# Altium schematic symbol library WCAP-AT1H.SchLib: 95 symbols (part 1 of 2)
Pins are listed as number, name and electrical type; pins without a type are passive.

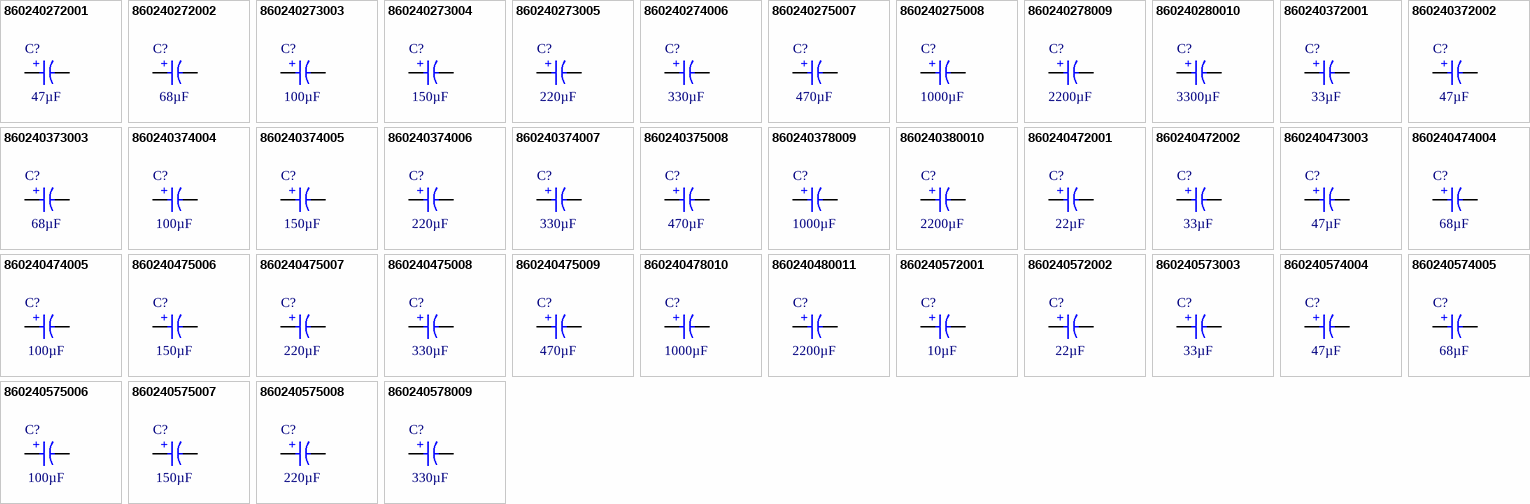
[diagram p0: symbols 860240272001 to 860240578009]

## 860240272001
designator C?, comment 47µF
WCAP-AT1H Aluminum Electrolytic Capacitor, Radial, D5 x H11mm, 47µF, 10V; Manufacturer Part Number: 860240272001; Manufacturer: Wurth Elektronik; Capacitance Tolerance: +/-20%; Dissipation Factor: 19%; Endurance: 5000h; Leakage Current: 4.7µA; Ripple Current: 100mA; Technical Reference: ATDC110470M010DSPA3E000; Category: Aluminum Electrolytic Capacitors; Match Code: WCAP-AT1H; ComponentLink1Description: Website Link; ComponentLink1URL: https://www.we-online.com/redexpert/article/860240272001?ad; ComponentLink2Description: Datasheet Link; ComponentLink2URL: https://www.we-online.com/redexpert/spec/860240272001?ad; Mount: Through Hole; Min Operating Temperature: -40°C; Max Operating Temperature: 105°C; Packaging: Ammo Pack; Case/Size Code: D5 x H11mm; Height: 11mm; Diameter: 5mm; Capacitance: 47µF; Rated Voltage (DC): 10V
footprint WCAP-AT1H_D5H11
simulation model 860240272001_47uF
pins: 1 P, 2 N
text: +

## 860240272002
designator C?, comment 68µF
WCAP-AT1H Aluminum Electrolytic Capacitor, Radial, D5 x H11mm, 68µF, 10V; Manufacturer Part Number: 860240272002; Manufacturer: Wurth Elektronik; Capacitance Tolerance: +/-20%; Dissipation Factor: 19%; Endurance: 5000h; Leakage Current: 6.8µA; Ripple Current: 130mA; Technical Reference: ATDC110680M010DSPA3E000; Category: Aluminum Electrolytic Capacitors; Match Code: WCAP-AT1H; ComponentLink1Description: Website Link; ComponentLink1URL: https://www.we-online.com/redexpert/article/860240272002?ad; ComponentLink2Description: Datasheet Link; ComponentLink2URL: https://www.we-online.com/redexpert/spec/860240272002?ad; Mount: Through Hole; Min Operating Temperature: -40°C; Max Operating Temperature: 105°C; Packaging: Ammo Pack; Case/Size Code: D5 x H11mm; Height: 11mm; Diameter: 5mm; Capacitance: 68µF; Rated Voltage (DC): 10V
footprint WCAP-AT1H_D5H11
simulation model 860240272002_68uF
pins: 1 P, 2 N
text: +

## 860240273003
designator C?, comment 100µF
WCAP-AT1H Aluminum Electrolytic Capacitor, Radial, D6.3 x H11mm, 100µF, 10V; Manufacturer Part Number: 860240273003; Manufacturer: Wurth Elektronik; Capacitance Tolerance: +/-20%; Dissipation Factor: 19%; Endurance: 5000h; Leakage Current: 10µA; Ripple Current: 190mA; Technical Reference: ATDD110101M010DSPA4E000; Category: Aluminum Electrolytic Capacitors; Match Code: WCAP-AT1H; ComponentLink1Description: Website Link; ComponentLink1URL: https://www.we-online.com/redexpert/article/860240273003?ad; ComponentLink2Description: Datasheet Link; ComponentLink2URL: https://www.we-online.com/redexpert/spec/860240273003?ad; Mount: Through Hole; Min Operating Temperature: -40°C; Max Operating Temperature: 105°C; Packaging: Ammo Pack; Case/Size Code: D6.3 x H11mm; Height: 11mm; Diameter: 6.3mm; Capacitance: 100µF; Rated Voltage (DC): 10V
footprint WCAP-AT1H_D6.3H11
simulation model 860240273003_100uF
pins: 1 P, 2 N
text: +

## 860240273004
designator C?, comment 150µF
WCAP-AT1H Aluminum Electrolytic Capacitor, Radial, D6.3 x H11mm, 150µF, 10V; Manufacturer Part Number: 860240273004; Manufacturer: Wurth Elektronik; Capacitance Tolerance: +/-20%; Dissipation Factor: 19%; Endurance: 5000h; Leakage Current: 15µA; Ripple Current: 220mA; Technical Reference: ATDD110151M010DSPA4E000; Category: Aluminum Electrolytic Capacitors; Match Code: WCAP-AT1H; ComponentLink1Description: Website Link; ComponentLink1URL: https://www.we-online.com/redexpert/article/860240273004?ad; ComponentLink2Description: Datasheet Link; ComponentLink2URL: https://www.we-online.com/redexpert/spec/860240273004?ad; Mount: Through Hole; Min Operating Temperature: -40°C; Max Operating Temperature: 105°C; Packaging: Ammo Pack; Case/Size Code: D6.3 x H11mm; Height: 11mm; Diameter: 6.3mm; Capacitance: 150µF; Rated Voltage (DC): 10V
footprint WCAP-AT1H_D6.3H11
simulation model 860240273004_150uF
pins: 1 P, 2 N
text: +

## 860240273005
designator C?, comment 220µF
WCAP-AT1H Aluminum Electrolytic Capacitor, Radial, D6.3 x H11mm, 220µF, 10V; Manufacturer Part Number: 860240273005; Manufacturer: Wurth Elektronik; Capacitance Tolerance: +/-20%; Dissipation Factor: 19%; Endurance: 5000h; Leakage Current: 22µA; Ripple Current: 270mA; Technical Reference: ATDD110221M010DSPA4E000; Category: Aluminum Electrolytic Capacitors; Match Code: WCAP-AT1H; ComponentLink1Description: Website Link; ComponentLink1URL: https://www.we-online.com/redexpert/article/860240273005?ad; ComponentLink2Description: Datasheet Link; ComponentLink2URL: https://www.we-online.com/redexpert/spec/860240273005?ad; Mount: Through Hole; Min Operating Temperature: -40°C; Max Operating Temperature: 105°C; Packaging: Ammo Pack; Case/Size Code: D6.3 x H11mm; Height: 11mm; Diameter: 6.3mm; Capacitance: 220µF; Rated Voltage (DC): 10V
footprint WCAP-AT1H_D6.3H11
simulation model 860240273005_220uF
pins: 1 P, 2 N
text: +

## 860240274006
designator C?, comment 330µF
WCAP-AT1H Aluminum Electrolytic Capacitor, Radial, D8 x H11.5mm, 330µF, 10V; Manufacturer Part Number: 860240274006; Manufacturer: Wurth Elektronik; Capacitance Tolerance: +/-20%; Dissipation Factor: 19%; Endurance: 8000h; Leakage Current: 33µA; Ripple Current: 390mA; Technical Reference: ATDE115331M010DSPA7H000; Category: Aluminum Electrolytic Capacitors; Match Code: WCAP-AT1H; ComponentLink1Description: Website Link; ComponentLink1URL: https://www.we-online.com/redexpert/article/860240274006?ad; ComponentLink2Description: Datasheet Link; ComponentLink2URL: https://www.we-online.com/redexpert/spec/860240274006?ad; Mount: Through Hole; Min Operating Temperature: -40°C; Max Operating Temperature: 105°C; Packaging: Ammo Pack; Case/Size Code: D8 x H11.5mm; Height: 11.5mm; Diameter: 8mm; Capacitance: 330µF; Rated Voltage (DC): 10V
footprint WCAP-AT1H_D8H11.5
simulation model 860240274006_330uF
pins: 1 P, 2 N
text: +

## 860240275007
designator C?, comment 470µF
WCAP-AT1H Aluminum Electrolytic Capacitor, Radial, D10 x H12.5mm, 470µF, 10V; Manufacturer Part Number: 860240275007; Manufacturer: Wurth Elektronik; Capacitance Tolerance: +/-20%; Dissipation Factor: 19%; Endurance: 10000h; Leakage Current: 47µA; Ripple Current: 540mA; Technical Reference: ATDF125471M010DSPA9K000; Category: Aluminum Electrolytic Capacitors; Match Code: WCAP-AT1H; ComponentLink1Description: Website Link; ComponentLink1URL: https://www.we-online.com/redexpert/article/860240275007?ad; ComponentLink2Description: Datasheet Link; ComponentLink2URL: https://www.we-online.com/redexpert/spec/860240275007?ad; Mount: Through Hole; Min Operating Temperature: -40°C; Max Operating Temperature: 105°C; Packaging: Ammo Pack; Case/Size Code: D10 x H12.5mm; Height: 12.5mm; Diameter: 10mm; Capacitance: 470µF; Rated Voltage (DC): 10V
footprint WCAP-AT1H_D10H12.5
simulation model 860240275007_470uF
pins: 1 P, 2 N
text: +

## 860240275008
designator C?, comment 1000µF
WCAP-AT1H Aluminum Electrolytic Capacitor, Radial, D10 x H16mm, 1000µF, 10V; Manufacturer Part Number: 860240275008; Manufacturer: Wurth Elektronik; Capacitance Tolerance: +/-20%; Dissipation Factor: 19%; Endurance: 10000h; Leakage Current: 100µA; Ripple Current: 900mA; Technical Reference: ATDF160102M010DSPAAK000; Category: Aluminum Electrolytic Capacitors; Match Code: WCAP-AT1H; ComponentLink1Description: Website Link; ComponentLink1URL: https://www.we-online.com/redexpert/article/860240275008?ad; ComponentLink2Description: Datasheet Link; ComponentLink2URL: https://www.we-online.com/redexpert/spec/860240275008?ad; Mount: Through Hole; Min Operating Temperature: -40°C; Max Operating Temperature: 105°C; Packaging: Ammo Pack; Case/Size Code: D10 x H16mm; Height: 16mm; Diameter: 10mm; Capacitance: 1000µF; Rated Voltage (DC): 10V
footprint WCAP-AT1H_D10H16
simulation model 860240275008_1mF
pins: 1 P, 2 N
text: +

## 860240278009
designator C?, comment 2200µF
WCAP-AT1H Aluminum Electrolytic Capacitor, Radial, D13 x H20mm, 2200µF, 10V; Manufacturer Part Number: 860240278009; Manufacturer: Wurth Elektronik; Capacitance Tolerance: +/-20%; Dissipation Factor: 19%; Endurance: 10000h; Leakage Current: 220µA; Ripple Current: 1540mA; Technical Reference: ATDI200222M010DSPACK000; Category: Aluminum Electrolytic Capacitors; Match Code: WCAP-AT1H; ComponentLink1Description: Website Link; ComponentLink1URL: https://www.we-online.com/redexpert/article/860240278009?ad; ComponentLink2Description: Datasheet Link; ComponentLink2URL: https://www.we-online.com/redexpert/spec/860240278009?ad; Mount: Through Hole; Min Operating Temperature: -40°C; Max Operating Temperature: 105°C; Packaging: Ammo Pack; Case/Size Code: D13 x H20mm; Height: 20mm; Diameter: 13mm; Capacitance: 2200µF; Rated Voltage (DC): 10V
footprint WCAP-AT1H_D13H20
simulation model 860240278009_2.2mF
pins: 1 P, 2 N
text: +

## 860240280010
designator C?, comment 3300µF
WCAP-AT1H Aluminum Electrolytic Capacitor, Radial, D16 x H25mm, 3300µF, 10V; Manufacturer Part Number: 860240280010; Manufacturer: Wurth Elektronik; Capacitance Tolerance: +/-20%; Dissipation Factor: 19%; Endurance: 10000h; Leakage Current: 330µA; Ripple Current: 1900mA; Technical Reference: ATDK250332M010DSPAEK000; Category: Aluminum Electrolytic Capacitors; Match Code: WCAP-AT1H; ComponentLink1Description: Website Link; ComponentLink1URL: https://www.we-online.com/redexpert/article/860240280010?ad; ComponentLink2Description: Datasheet Link; ComponentLink2URL: https://www.we-online.com/redexpert/spec/860240280010?ad; Mount: Through Hole; Min Operating Temperature: -40°C; Max Operating Temperature: 105°C; Packaging: Ammo Pack; Case/Size Code: D16 x H25mm; Height: 25mm; Diameter: 16mm; Capacitance: 3300µF; Rated Voltage (DC): 10V
footprint WCAP-AT1H_D16H25
simulation model 860240280010_3.3mF
pins: 1 P, 2 N
text: +

## 860240372001
designator C?, comment 33µF
WCAP-AT1H Aluminum Electrolytic Capacitor, Radial, D5 x H11mm, 33µF, 16V; Manufacturer Part Number: 860240372001; Manufacturer: Wurth Elektronik; Capacitance Tolerance: +/-20%; Dissipation Factor: 16%; Endurance: 5000h; Leakage Current: 5.28µA; Ripple Current: 115mA; Technical Reference: ATDC110330M016DSPA3E000; Category: Aluminum Electrolytic Capacitors; Match Code: WCAP-AT1H; ComponentLink1Description: Website Link; ComponentLink1URL: https://www.we-online.com/redexpert/article/860240372001?ad; ComponentLink2Description: Datasheet Link; ComponentLink2URL: https://www.we-online.com/redexpert/spec/860240372001?ad; Mount: Through Hole; Min Operating Temperature: -40°C; Max Operating Temperature: 105°C; Packaging: Ammo Pack; Case/Size Code: D5 x H11mm; Height: 11mm; Diameter: 5mm; Capacitance: 33µF; Rated Voltage (DC): 16V
footprint WCAP-AT1H_D5H11
simulation model 860240372001_33uF
pins: 1 P, 2 N
text: +

## 860240372002
designator C?, comment 47µF
WCAP-AT1H Aluminum Electrolytic Capacitor, Radial, D5 x H11mm, 47µF, 16V; Manufacturer Part Number: 860240372002; Manufacturer: Wurth Elektronik; Capacitance Tolerance: +/-20%; Dissipation Factor: 16%; Endurance: 5000h; Leakage Current: 7.52µA; Ripple Current: 145mA; Technical Reference: ATDC110470M016DSPA3E000; Category: Aluminum Electrolytic Capacitors; Match Code: WCAP-AT1H; ComponentLink1Description: Website Link; ComponentLink1URL: https://www.we-online.com/redexpert/article/860240372002?ad; ComponentLink2Description: Datasheet Link; ComponentLink2URL: https://www.we-online.com/redexpert/spec/860240372002?ad; Mount: Through Hole; Min Operating Temperature: -40°C; Max Operating Temperature: 105°C; Packaging: Ammo Pack; Case/Size Code: D5 x H11mm; Height: 11mm; Diameter: 5mm; Capacitance: 47µF; Rated Voltage (DC): 16V
footprint WCAP-AT1H_D5H11
simulation model 860240372002_47uF
pins: 1 P, 2 N
text: +

## 860240373003
designator C?, comment 68µF
WCAP-AT1H Aluminum Electrolytic Capacitor, Radial, D6.3 x H11mm, 68µF, 16V; Manufacturer Part Number: 860240373003; Manufacturer: Wurth Elektronik; Capacitance Tolerance: +/-20%; Dissipation Factor: 16%; Endurance: 5000h; Leakage Current: 10.88µA; Ripple Current: 200mA; Technical Reference: ATDD110680M016DSPA4E000; Category: Aluminum Electrolytic Capacitors; Match Code: WCAP-AT1H; ComponentLink1Description: Website Link; ComponentLink1URL: https://www.we-online.com/redexpert/article/860240373003?ad; ComponentLink2Description: Datasheet Link; ComponentLink2URL: https://www.we-online.com/redexpert/spec/860240373003?ad; Mount: Through Hole; Min Operating Temperature: -40°C; Max Operating Temperature: 105°C; Packaging: Ammo Pack; Case/Size Code: D6.3 x H11mm; Height: 11mm; Diameter: 6.3mm; Capacitance: 68µF; Rated Voltage (DC): 16V
footprint WCAP-AT1H_D6.3H11
simulation model 860240373003_68uF
pins: 1 P, 2 N
text: +

## 860240374004
designator C?, comment 100µF
WCAP-AT1H Aluminum Electrolytic Capacitor, Radial, D8 x H11.5mm, 100µF, 16V; Manufacturer Part Number: 860240374004; Manufacturer: Wurth Elektronik; Capacitance Tolerance: +/-20%; Dissipation Factor: 16%; Endurance: 8000h; Leakage Current: 16µA; Ripple Current: 245mA; Technical Reference: ATDE115101M016DSPA7H000; Category: Aluminum Electrolytic Capacitors; Match Code: WCAP-AT1H; ComponentLink1Description: Website Link; ComponentLink1URL: https://www.we-online.com/redexpert/article/860240374004?ad; ComponentLink2Description: Datasheet Link; ComponentLink2URL: https://www.we-online.com/redexpert/spec/860240374004?ad; Mount: Through Hole; Min Operating Temperature: -40°C; Max Operating Temperature: 105°C; Packaging: Ammo Pack; Case/Size Code: D8 x H11.5mm; Height: 11.5mm; Diameter: 8mm; Capacitance: 100µF; Rated Voltage (DC): 16V
footprint WCAP-AT1H_D8H11.5
simulation model 860240374004_100uF
pins: 1 P, 2 N
text: +

## 860240374005
designator C?, comment 150µF
WCAP-AT1H Aluminum Electrolytic Capacitor, Radial, D8 x H11.5mm, 150µF, 16V; Manufacturer Part Number: 860240374005; Manufacturer: Wurth Elektronik; Capacitance Tolerance: +/-20%; Dissipation Factor: 16%; Endurance: 8000h; Leakage Current: 24µA; Ripple Current: 300mA; Technical Reference: ATDE115151M016DSPA7H000; Category: Aluminum Electrolytic Capacitors; Match Code: WCAP-AT1H; ComponentLink1Description: Website Link; ComponentLink1URL: https://www.we-online.com/redexpert/article/860240374005?ad; ComponentLink2Description: Datasheet Link; ComponentLink2URL: https://www.we-online.com/redexpert/spec/860240374005?ad; Mount: Through Hole; Min Operating Temperature: -40°C; Max Operating Temperature: 105°C; Packaging: Ammo Pack; Case/Size Code: D8 x H11.5mm; Height: 11.5mm; Diameter: 8mm; Capacitance: 150µF; Rated Voltage (DC): 16V
footprint WCAP-AT1H_D8H11.5
simulation model 860240374005_150uF
pins: 1 P, 2 N
text: +

## 860240374006
designator C?, comment 220µF
WCAP-AT1H Aluminum Electrolytic Capacitor, Radial, D8 x H11.5mm, 220µF, 16V; Manufacturer Part Number: 860240374006; Manufacturer: Wurth Elektronik; Capacitance Tolerance: +/-20%; Dissipation Factor: 16%; Endurance: 8000h; Leakage Current: 35.2µA; Ripple Current: 420mA; Technical Reference: ATDE115221M016DSPA7H000; Category: Aluminum Electrolytic Capacitors; Match Code: WCAP-AT1H; ComponentLink1Description: Website Link; ComponentLink1URL: https://www.we-online.com/redexpert/article/860240374006?ad; ComponentLink2Description: Datasheet Link; ComponentLink2URL: https://www.we-online.com/redexpert/spec/860240374006?ad; Mount: Through Hole; Min Operating Temperature: -40°C; Max Operating Temperature: 105°C; Packaging: Ammo Pack; Case/Size Code: D8 x H11.5mm; Height: 11.5mm; Diameter: 8mm; Capacitance: 220µF; Rated Voltage (DC): 16V
footprint WCAP-AT1H_D8H11.5
simulation model 860240374006_220uF
pins: 1 P, 2 N
text: +

## 860240374007
designator C?, comment 330µF
WCAP-AT1H Aluminum Electrolytic Capacitor, Radial, D8 x H16mm, 330µF, 16V; Manufacturer Part Number: 860240374007; Manufacturer: Wurth Elektronik; Capacitance Tolerance: +/-20%; Dissipation Factor: 16%; Endurance: 8000h; Leakage Current: 52.8µA; Ripple Current: 500mA; Technical Reference: ATDE160331M016DSPA7H000; Category: Aluminum Electrolytic Capacitors; Match Code: WCAP-AT1H; ComponentLink1Description: Website Link; ComponentLink1URL: https://www.we-online.com/redexpert/article/860240374007?ad; ComponentLink2Description: Datasheet Link; ComponentLink2URL: https://www.we-online.com/redexpert/spec/860240374007?ad; Mount: Through Hole; Min Operating Temperature: -40°C; Max Operating Temperature: 105°C; Packaging: Ammo Pack; Case/Size Code: D8 x H16mm; Height: 16mm; Diameter: 8mm; Capacitance: 330µF; Rated Voltage (DC): 16V
footprint WCAP-AT1H_D8H16
simulation model 860240374007_330uF
pins: 1 P, 2 N
text: +

## 860240375008
designator C?, comment 470µF
WCAP-AT1H Aluminum Electrolytic Capacitor, Radial, D10 x H16mm, 470µF, 16V; Manufacturer Part Number: 860240375008; Manufacturer: Wurth Elektronik; Capacitance Tolerance: +/-20%; Dissipation Factor: 16%; Endurance: 10000h; Leakage Current: 75.2µA; Ripple Current: 730mA; Technical Reference: ATDF160471M016DSPAAK000; Category: Aluminum Electrolytic Capacitors; Match Code: WCAP-AT1H; ComponentLink1Description: Website Link; ComponentLink1URL: https://www.we-online.com/redexpert/article/860240375008?ad; ComponentLink2Description: Datasheet Link; ComponentLink2URL: https://www.we-online.com/redexpert/spec/860240375008?ad; Mount: Through Hole; Min Operating Temperature: -40°C; Max Operating Temperature: 105°C; Packaging: Ammo Pack; Case/Size Code: D10 x H16mm; Height: 16mm; Diameter: 10mm; Capacitance: 470µF; Rated Voltage (DC): 16V
footprint WCAP-AT1H_D10H16
simulation model 860240375008_470uF
pins: 1 P, 2 N
text: +

## 860240378009
designator C?, comment 1000µF
WCAP-AT1H Aluminum Electrolytic Capacitor, Radial, D13 x H20mm, 1000µF, 16V; Manufacturer Part Number: 860240378009; Manufacturer: Wurth Elektronik; Capacitance Tolerance: +/-20%; Dissipation Factor: 16%; Endurance: 10000h; Leakage Current: 160µA; Ripple Current: 1173mA; Technical Reference: ATDI200102M016DSPACK000; Category: Aluminum Electrolytic Capacitors; Match Code: WCAP-AT1H; ComponentLink1Description: Website Link; ComponentLink1URL: https://www.we-online.com/redexpert/article/860240378009?ad; ComponentLink2Description: Datasheet Link; ComponentLink2URL: https://www.we-online.com/redexpert/spec/860240378009?ad; Mount: Through Hole; Min Operating Temperature: -40°C; Max Operating Temperature: 105°C; Packaging: Ammo Pack; Case/Size Code: D13 x H20mm; Height: 20mm; Diameter: 13mm; Capacitance: 1000µF; Rated Voltage (DC): 16V
footprint WCAP-AT1H_D13H20
simulation model 860240378009_1mF
pins: 1 P, 2 N
text: +

## 860240380010
designator C?, comment 2200µF
WCAP-AT1H Aluminum Electrolytic Capacitor, Radial, D16 x H25mm, 2200µF, 16V; Manufacturer Part Number: 860240380010; Manufacturer: Wurth Elektronik; Capacitance Tolerance: +/-20%; Dissipation Factor: 16%; Endurance: 10000h; Leakage Current: 352µA; Ripple Current: 2093mA; Technical Reference: ATDK250222M016DSPAEK000; Category: Aluminum Electrolytic Capacitors; Match Code: WCAP-AT1H; ComponentLink1Description: Website Link; ComponentLink1URL: https://www.we-online.com/redexpert/article/860240380010?ad; ComponentLink2Description: Datasheet Link; ComponentLink2URL: https://www.we-online.com/redexpert/spec/860240380010?ad; Mount: Through Hole; Min Operating Temperature: -40°C; Max Operating Temperature: 105°C; Packaging: Ammo Pack; Case/Size Code: D16 x H25mm; Height: 25mm; Diameter: 16mm; Capacitance: 2200µF; Rated Voltage (DC): 16V
footprint WCAP-AT1H_D16H25
simulation model 860240380010_2.2mF
pins: 1 P, 2 N
text: +

## 860240472001
designator C?, comment 22µF
WCAP-AT1H Aluminum Electrolytic Capacitor, Radial, D5 x H11mm, 22µF, 25V; Manufacturer Part Number: 860240472001; Manufacturer: Wurth Elektronik; Capacitance Tolerance: +/-20%; Dissipation Factor: 14%; Endurance: 5000h; Leakage Current: 5.5µA; Ripple Current: 100mA; Technical Reference: ATDC110220M025DSPA3E000; Category: Aluminum Electrolytic Capacitors; Match Code: WCAP-AT1H; ComponentLink1Description: Website Link; ComponentLink1URL: https://www.we-online.com/redexpert/article/860240472001?ad; ComponentLink2Description: Datasheet Link; ComponentLink2URL: https://www.we-online.com/redexpert/spec/860240472001?ad; Mount: Through Hole; Min Operating Temperature: -40°C; Max Operating Temperature: 105°C; Packaging: Ammo Pack; Case/Size Code: D5 x H11mm; Height: 11mm; Diameter: 5mm; Capacitance: 22µF; Rated Voltage (DC): 25V
footprint WCAP-AT1H_D5H11
simulation model 860240472001_22uF
pins: 1 P, 2 N
text: +

## 860240472002
designator C?, comment 33µF
WCAP-AT1H Aluminum Electrolytic Capacitor, Radial, D5 x H11mm, 33µF, 25V; Manufacturer Part Number: 860240472002; Manufacturer: Wurth Elektronik; Capacitance Tolerance: +/-20%; Dissipation Factor: 14%; Endurance: 5000h; Leakage Current: 8.25µA; Ripple Current: 130mA; Technical Reference: ATDC110330M025DSPA3E000; Category: Aluminum Electrolytic Capacitors; Match Code: WCAP-AT1H; ComponentLink1Description: Website Link; ComponentLink1URL: https://www.we-online.com/redexpert/article/860240472002?ad; ComponentLink2Description: Datasheet Link; ComponentLink2URL: https://www.we-online.com/redexpert/spec/860240472002?ad; Mount: Through Hole; Min Operating Temperature: -40°C; Max Operating Temperature: 105°C; Packaging: Ammo Pack; Case/Size Code: D5 x H11mm; Height: 11mm; Diameter: 5mm; Capacitance: 33µF; Rated Voltage (DC): 25V
footprint WCAP-AT1H_D5H11
simulation model 860240472002_33uF
pins: 1 P, 2 N
text: +

## 860240473003
designator C?, comment 47µF
WCAP-AT1H Aluminum Electrolytic Capacitor, Radial, D6.3 x H11mm, 47µF, 25V; Manufacturer Part Number: 860240473003; Manufacturer: Wurth Elektronik; Capacitance Tolerance: +/-20%; Dissipation Factor: 14%; Endurance: 5000h; Leakage Current: 11.75µA; Ripple Current: 160mA; Technical Reference: ATDD110470M025DSPA4E000; Category: Aluminum Electrolytic Capacitors; Match Code: WCAP-AT1H; ComponentLink1Description: Website Link; ComponentLink1URL: https://www.we-online.com/redexpert/article/860240473003?ad; ComponentLink2Description: Datasheet Link; ComponentLink2URL: https://www.we-online.com/redexpert/spec/860240473003?ad; Mount: Through Hole; Min Operating Temperature: -40°C; Max Operating Temperature: 105°C; Packaging: Ammo Pack; Case/Size Code: D6.3 x H11mm; Height: 11mm; Diameter: 6.3mm; Capacitance: 47µF; Rated Voltage (DC): 25V
footprint WCAP-AT1H_D6.3H11
simulation model 860240473003_47uF
pins: 1 P, 2 N
text: +

## 860240474004
designator C?, comment 68µF
WCAP-AT1H Aluminum Electrolytic Capacitor, Radial, D8 x H11.5mm, 68µF, 25V; Manufacturer Part Number: 860240474004; Manufacturer: Wurth Elektronik; Capacitance Tolerance: +/-20%; Dissipation Factor: 14%; Endurance: 8000h; Leakage Current: 17µA; Ripple Current: 230mA; Technical Reference: ATDE115680M025DSPA7H000; Category: Aluminum Electrolytic Capacitors; Match Code: WCAP-AT1H; ComponentLink1Description: Website Link; ComponentLink1URL: https://www.we-online.com/redexpert/article/860240474004?ad; ComponentLink2Description: Datasheet Link; ComponentLink2URL: https://www.we-online.com/redexpert/spec/860240474004?ad; Mount: Through Hole; Min Operating Temperature: -40°C; Max Operating Temperature: 105°C; Packaging: Ammo Pack; Case/Size Code: D8 x H11.5mm; Height: 11.5mm; Diameter: 8mm; Capacitance: 68µF; Rated Voltage (DC): 25V
footprint WCAP-AT1H_D8H11.5
simulation model 860240474004_68uF
pins: 1 P, 2 N
text: +

## 860240474005
designator C?, comment 100µF
WCAP-AT1H Aluminum Electrolytic Capacitor, Radial, D8 x H11.5mm, 100µF, 25V; Manufacturer Part Number: 860240474005; Manufacturer: Wurth Elektronik; Capacitance Tolerance: +/-20%; Dissipation Factor: 14%; Endurance: 8000h; Leakage Current: 25µA; Ripple Current: 327mA; Technical Reference: ATDE115101M025DSPA7H000; Category: Aluminum Electrolytic Capacitors; Match Code: WCAP-AT1H; ComponentLink1Description: Website Link; ComponentLink1URL: https://www.we-online.com/redexpert/article/860240474005?ad; ComponentLink2Description: Datasheet Link; ComponentLink2URL: https://www.we-online.com/redexpert/spec/860240474005?ad; Mount: Through Hole; Min Operating Temperature: -40°C; Max Operating Temperature: 105°C; Packaging: Ammo Pack; Case/Size Code: D8 x H11.5mm; Height: 11.5mm; Diameter: 8mm; Capacitance: 100µF; Rated Voltage (DC): 25V
footprint WCAP-AT1H_D8H11.5
simulation model 860240474005_100uF
pins: 1 P, 2 N
text: +

## 860240475006
designator C?, comment 150µF
WCAP-AT1H Aluminum Electrolytic Capacitor, Radial, D10 x H12.5mm, 150µF, 25V; Manufacturer Part Number: 860240475006; Manufacturer: Wurth Elektronik; Capacitance Tolerance: +/-20%; Dissipation Factor: 14%; Endurance: 10000h; Leakage Current: 37.5µA; Ripple Current: 460mA; Technical Reference: ATDF125151M025DSPA9K000; Category: Aluminum Electrolytic Capacitors; Match Code: WCAP-AT1H; ComponentLink1Description: Website Link; ComponentLink1URL: https://www.we-online.com/redexpert/article/860240475006?ad; ComponentLink2Description: Datasheet Link; ComponentLink2URL: https://www.we-online.com/redexpert/spec/860240475006?ad; Mount: Through Hole; Min Operating Temperature: -40°C; Max Operating Temperature: 105°C; Packaging: Ammo Pack; Case/Size Code: D10 x H12.5mm; Height: 12.5mm; Diameter: 10mm; Capacitance: 150µF; Rated Voltage (DC): 25V
footprint WCAP-AT1H_D10H12.5
simulation model 860240475006_150uF
pins: 1 P, 2 N
text: +

## 860240475007
designator C?, comment 220µF
WCAP-AT1H Aluminum Electrolytic Capacitor, Radial, D10 x H16mm, 220µF, 25V; Manufacturer Part Number: 860240475007; Manufacturer: Wurth Elektronik; Capacitance Tolerance: +/-20%; Dissipation Factor: 14%; Endurance: 10000h; Leakage Current: 55µA; Ripple Current: 580mA; Technical Reference: ATDF160221M025DSPAAK000; Category: Aluminum Electrolytic Capacitors; Match Code: WCAP-AT1H; ComponentLink1Description: Website Link; ComponentLink1URL: https://www.we-online.com/redexpert/article/860240475007?ad; ComponentLink2Description: Datasheet Link; ComponentLink2URL: https://www.we-online.com/redexpert/spec/860240475007?ad; Mount: Through Hole; Min Operating Temperature: -40°C; Max Operating Temperature: 105°C; Packaging: Ammo Pack; Case/Size Code: D10 x H16mm; Height: 16mm; Diameter: 10mm; Capacitance: 220µF; Rated Voltage (DC): 25V
footprint WCAP-AT1H_D10H16
simulation model 860240475007_220uF
pins: 1 P, 2 N
text: +

## 860240475008
designator C?, comment 330µF
WCAP-AT1H Aluminum Electrolytic Capacitor, Radial, D10 x H20mm, 330µF, 25V; Manufacturer Part Number: 860240475008; Manufacturer: Wurth Elektronik; Capacitance Tolerance: +/-20%; Dissipation Factor: 14%; Endurance: 10000h; Leakage Current: 82.5µA; Ripple Current: 805mA; Technical Reference: ATDF200331M025DSPAAK000; Category: Aluminum Electrolytic Capacitors; Match Code: WCAP-AT1H; ComponentLink1Description: Website Link; ComponentLink1URL: https://www.we-online.com/redexpert/article/860240475008?ad; ComponentLink2Description: Datasheet Link; ComponentLink2URL: https://www.we-online.com/redexpert/spec/860240475008?ad; Mount: Through Hole; Min Operating Temperature: -40°C; Max Operating Temperature: 105°C; Packaging: Ammo Pack; Case/Size Code: D10 x H20mm; Height: 20mm; Diameter: 10mm; Capacitance: 330µF; Rated Voltage (DC): 25V
footprint WCAP-AT1H_D10H20
simulation model 860240475008_330uF
pins: 1 P, 2 N
text: +

## 860240475009
designator C?, comment 470µF
WCAP-AT1H Aluminum Electrolytic Capacitor, Radial, D10 x H20mm, 470µF, 25V; Manufacturer Part Number: 860240475009; Manufacturer: Wurth Elektronik; Capacitance Tolerance: +/-20%; Dissipation Factor: 14%; Endurance: 10000h; Leakage Current: 117.5µA; Ripple Current: 950mA; Technical Reference: ATDF200471M025DSPAAK000; Category: Aluminum Electrolytic Capacitors; Match Code: WCAP-AT1H; ComponentLink1Description: Website Link; ComponentLink1URL: https://www.we-online.com/redexpert/article/860240475009?ad; ComponentLink2Description: Datasheet Link; ComponentLink2URL: https://www.we-online.com/redexpert/spec/860240475009?ad; Mount: Through Hole; Min Operating Temperature: -40°C; Max Operating Temperature: 105°C; Packaging: Ammo Pack; Case/Size Code: D10 x H20mm; Height: 20mm; Diameter: 10mm; Capacitance: 470µF; Rated Voltage (DC): 25V
footprint WCAP-AT1H_D10H20
simulation model 860240475009_470uF
pins: 1 P, 2 N
text: +

## 860240478010
designator C?, comment 1000µF
WCAP-AT1H Aluminum Electrolytic Capacitor, Radial, D13 x H25mm, 1000µF, 25V; Manufacturer Part Number: 860240478010; Manufacturer: Wurth Elektronik; Capacitance Tolerance: +/-20%; Dissipation Factor: 14%; Endurance: 10000h; Leakage Current: 250µA; Ripple Current: 1552mA; Technical Reference: ATDI250102M025DSPACK000; Category: Aluminum Electrolytic Capacitors; Match Code: WCAP-AT1H; ComponentLink1Description: Website Link; ComponentLink1URL: https://www.we-online.com/redexpert/article/860240478010?ad; ComponentLink2Description: Datasheet Link; ComponentLink2URL: https://www.we-online.com/redexpert/spec/860240478010?ad; Mount: Through Hole; Min Operating Temperature: -40°C; Max Operating Temperature: 105°C; Packaging: Ammo Pack; Case/Size Code: D13 x H25mm; Height: 25mm; Diameter: 13mm; Capacitance: 1000µF; Rated Voltage (DC): 25V
footprint WCAP-AT1H_D13H25
simulation model 860240478010_1mF
pins: 1 P, 2 N
text: +

## 860240480011
designator C?, comment 2200µF
WCAP-AT1H Aluminum Electrolytic Capacitor, Radial, D16 x H31.5mm, 2200µF, 25V; Manufacturer Part Number: 860240480011; Manufacturer: Wurth Elektronik; Capacitance Tolerance: +/-20%; Dissipation Factor: 14%; Endurance: 10000h; Leakage Current: 550µA; Ripple Current: 2400mA; Technical Reference: ATDK315222M025DSPADK000; Category: Aluminum Electrolytic Capacitors; Match Code: WCAP-AT1H; ComponentLink1Description: Website Link; ComponentLink1URL: https://www.we-online.com/redexpert/article/860240480011?ad; ComponentLink2Description: Datasheet Link; ComponentLink2URL: https://www.we-online.com/redexpert/spec/860240480011?ad; Mount: Through Hole; Min Operating Temperature: -40°C; Max Operating Temperature: 105°C; Packaging: Ammo Pack; Case/Size Code: D16 x H31.5mm; Height: 31.5mm; Diameter: 16mm; Capacitance: 2200µF; Rated Voltage (DC): 25V
footprint WCAP-AT1H_D16H31.5
simulation model 860240480011_2.2mF
pins: 1 P, 2 N
text: +

## 860240572001
designator C?, comment 10µF
WCAP-AT1H Aluminum Electrolytic Capacitor, Radial, D5 x H11mm, 10µF, 35V; Manufacturer Part Number: 860240572001; Manufacturer: Wurth Elektronik; Capacitance Tolerance: +/-20%; Dissipation Factor: 12%; Endurance: 5000h; Leakage Current: 3.5µA; Ripple Current: 65mA; Technical Reference: ATDC110100M035DSPA3E000; Category: Aluminum Electrolytic Capacitors; Match Code: WCAP-AT1H; ComponentLink1Description: Website Link; ComponentLink1URL: https://www.we-online.com/redexpert/article/860240572001?ad; ComponentLink2Description: Datasheet Link; ComponentLink2URL: https://www.we-online.com/redexpert/spec/860240572001?ad; Mount: Through Hole; Min Operating Temperature: -40°C; Max Operating Temperature: 105°C; Packaging: Ammo Pack; Case/Size Code: D5 x H11mm; Height: 11mm; Diameter: 5mm; Capacitance: 10µF; Rated Voltage (DC): 35V
footprint WCAP-AT1H_D5H11
simulation model 860240572001_10uF
pins: 1 P, 2 N
text: +

## 860240572002
designator C?, comment 22µF
WCAP-AT1H Aluminum Electrolytic Capacitor, Radial, D5 x H11mm, 22µF, 35V; Manufacturer Part Number: 860240572002; Manufacturer: Wurth Elektronik; Capacitance Tolerance: +/-20%; Dissipation Factor: 12%; Endurance: 5000h; Leakage Current: 7.7µA; Ripple Current: 125mA; Technical Reference: ATDC110220M035DSPA3E000; Category: Aluminum Electrolytic Capacitors; Match Code: WCAP-AT1H; ComponentLink1Description: Website Link; ComponentLink1URL: https://www.we-online.com/redexpert/article/860240572002?ad; ComponentLink2Description: Datasheet Link; ComponentLink2URL: https://www.we-online.com/redexpert/spec/860240572002?ad; Mount: Through Hole; Min Operating Temperature: -40°C; Max Operating Temperature: 105°C; Packaging: Ammo Pack; Case/Size Code: D5 x H11mm; Height: 11mm; Diameter: 5mm; Capacitance: 22µF; Rated Voltage (DC): 35V
footprint WCAP-AT1H_D5H11
simulation model 860240572002_22uF
pins: 1 P, 2 N
text: +

## 860240573003
designator C?, comment 33µF
WCAP-AT1H Aluminum Electrolytic Capacitor, Radial, D6.3 x H11mm, 33µF, 35V; Manufacturer Part Number: 860240573003; Manufacturer: Wurth Elektronik; Capacitance Tolerance: +/-20%; Dissipation Factor: 12%; Endurance: 5000h; Leakage Current: 11.55µA; Ripple Current: 178mA; Technical Reference: ATDD110330M035DSPA4E000; Category: Aluminum Electrolytic Capacitors; Match Code: WCAP-AT1H; ComponentLink1Description: Website Link; ComponentLink1URL: https://www.we-online.com/redexpert/article/860240573003?ad; ComponentLink2Description: Datasheet Link; ComponentLink2URL: https://www.we-online.com/redexpert/spec/860240573003?ad; Mount: Through Hole; Min Operating Temperature: -40°C; Max Operating Temperature: 105°C; Packaging: Ammo Pack; Case/Size Code: D6.3 x H11mm; Height: 11mm; Diameter: 6.3mm; Capacitance: 33µF; Rated Voltage (DC): 35V
footprint WCAP-AT1H_D6.3H11
simulation model 860240573003_33uF
pins: 1 P, 2 N
text: +

## 860240574004
designator C?, comment 47µF
WCAP-AT1H Aluminum Electrolytic Capacitor, Radial, D8 x H11.5mm, 47µF, 35V; Manufacturer Part Number: 860240574004; Manufacturer: Wurth Elektronik; Capacitance Tolerance: +/-20%; Dissipation Factor: 12%; Endurance: 8000h; Leakage Current: 16.45µA; Ripple Current: 240mA; Technical Reference: ATDE115470M035DSPA7H000; Category: Aluminum Electrolytic Capacitors; Match Code: WCAP-AT1H; ComponentLink1Description: Website Link; ComponentLink1URL: https://www.we-online.com/redexpert/article/860240574004?ad; ComponentLink2Description: Datasheet Link; ComponentLink2URL: https://www.we-online.com/redexpert/spec/860240574004?ad; Mount: Through Hole; Min Operating Temperature: -40°C; Max Operating Temperature: 105°C; Packaging: Ammo Pack; Case/Size Code: D8 x H11.5mm; Height: 11.5mm; Diameter: 8mm; Capacitance: 47µF; Rated Voltage (DC): 35V
footprint WCAP-AT1H_D8H11.5
simulation model 860240574004_47uF
pins: 1 P, 2 N
text: +

## 860240574005
designator C?, comment 68µF
WCAP-AT1H Aluminum Electrolytic Capacitor, Radial, D8 x H11.5mm, 68µF, 35V; Manufacturer Part Number: 860240574005; Manufacturer: Wurth Elektronik; Capacitance Tolerance: +/-20%; Dissipation Factor: 12%; Endurance: 8000h; Leakage Current: 23.8µA; Ripple Current: 270mA; Technical Reference: ATDE115680M035DSPA7H000; Category: Aluminum Electrolytic Capacitors; Match Code: WCAP-AT1H; ComponentLink1Description: Website Link; ComponentLink1URL: https://www.we-online.com/redexpert/article/860240574005?ad; ComponentLink2Description: Datasheet Link; ComponentLink2URL: https://www.we-online.com/redexpert/spec/860240574005?ad; Mount: Through Hole; Min Operating Temperature: -40°C; Max Operating Temperature: 105°C; Packaging: Ammo Pack; Case/Size Code: D8 x H11.5mm; Height: 11.5mm; Diameter: 8mm; Capacitance: 68µF; Rated Voltage (DC): 35V
footprint WCAP-AT1H_D8H11.5
simulation model 860240574005_68uF
pins: 1 P, 2 N
text: +

## 860240575006
designator C?, comment 100µF
WCAP-AT1H Aluminum Electrolytic Capacitor, Radial, D10 x H12.5mm, 100µF, 35V; Manufacturer Part Number: 860240575006; Manufacturer: Wurth Elektronik; Capacitance Tolerance: +/-20%; Dissipation Factor: 12%; Endurance: 10000h; Leakage Current: 35µA; Ripple Current: 390mA; Technical Reference: ATDF125101M035DSPA9K000; Category: Aluminum Electrolytic Capacitors; Match Code: WCAP-AT1H; ComponentLink1Description: Website Link; ComponentLink1URL: https://www.we-online.com/redexpert/article/860240575006?ad; ComponentLink2Description: Datasheet Link; ComponentLink2URL: https://www.we-online.com/redexpert/spec/860240575006?ad; Mount: Through Hole; Min Operating Temperature: -40°C; Max Operating Temperature: 105°C; Packaging: Ammo Pack; Case/Size Code: D10 x H12.5mm; Height: 12.5mm; Diameter: 10mm; Capacitance: 100µF; Rated Voltage (DC): 35V
footprint WCAP-AT1H_D10H12.5
simulation model 860240575006_100uF
pins: 1 P, 2 N
text: +

## 860240575007
designator C?, comment 150µF
WCAP-AT1H Aluminum Electrolytic Capacitor, Radial, D10 x H16mm, 150µF, 35V; Manufacturer Part Number: 860240575007; Manufacturer: Wurth Elektronik; Capacitance Tolerance: +/-20%; Dissipation Factor: 12%; Endurance: 10000h; Leakage Current: 52.5µA; Ripple Current: 632mA; Technical Reference: ATDF160151M035DSPAAK000; Category: Aluminum Electrolytic Capacitors; Match Code: WCAP-AT1H; ComponentLink1Description: Website Link; ComponentLink1URL: https://www.we-online.com/redexpert/article/860240575007?ad; ComponentLink2Description: Datasheet Link; ComponentLink2URL: https://www.we-online.com/redexpert/spec/860240575007?ad; Mount: Through Hole; Min Operating Temperature: -40°C; Max Operating Temperature: 105°C; Packaging: Ammo Pack; Case/Size Code: D10 x H16mm; Height: 16mm; Diameter: 10mm; Capacitance: 150µF; Rated Voltage (DC): 35V
footprint WCAP-AT1H_D10H16
simulation model 860240575007_150uF
pins: 1 P, 2 N
text: +

## 860240575008
designator C?, comment 220µF
WCAP-AT1H Aluminum Electrolytic Capacitor, Radial, D10 x H20mm, 220µF, 35V; Manufacturer Part Number: 860240575008; Manufacturer: Wurth Elektronik; Capacitance Tolerance: +/-20%; Dissipation Factor: 12%; Endurance: 10000h; Leakage Current: 77µA; Ripple Current: 760mA; Technical Reference: ATDF200221M035DSPAAK000; Category: Aluminum Electrolytic Capacitors; Match Code: WCAP-AT1H; ComponentLink1Description: Website Link; ComponentLink1URL: https://www.we-online.com/redexpert/article/860240575008?ad; ComponentLink2Description: Datasheet Link; ComponentLink2URL: https://www.we-online.com/redexpert/spec/860240575008?ad; Mount: Through Hole; Min Operating Temperature: -40°C; Max Operating Temperature: 105°C; Packaging: Ammo Pack; Case/Size Code: D10 x H20mm; Height: 20mm; Diameter: 10mm; Capacitance: 220µF; Rated Voltage (DC): 35V
footprint WCAP-AT1H_D10H20
simulation model 860240575008_220uF
pins: 1 P, 2 N
text: +

## 860240578009
designator C?, comment 330µF
WCAP-AT1H Aluminum Electrolytic Capacitor, Radial, D13 x H20mm, 330µF, 35V; Manufacturer Part Number: 860240578009; Manufacturer: Wurth Elektronik; Capacitance Tolerance: +/-20%; Dissipation Factor: 12%; Endurance: 10000h; Leakage Current: 115.5µA; Ripple Current: 1035mA; Technical Reference: ATDI200331M035DSPACK000; Category: Aluminum Electrolytic Capacitors; Match Code: WCAP-AT1H; ComponentLink1Description: Website Link; ComponentLink1URL: https://www.we-online.com/redexpert/article/860240578009?ad; ComponentLink2Description: Datasheet Link; ComponentLink2URL: https://www.we-online.com/redexpert/spec/860240578009?ad; Mount: Through Hole; Min Operating Temperature: -40°C; Max Operating Temperature: 105°C; Packaging: Ammo Pack; Case/Size Code: D13 x H20mm; Height: 20mm; Diameter: 13mm; Capacitance: 330µF; Rated Voltage (DC): 35V
footprint WCAP-AT1H_D13H20
simulation model 860240578009_330uF
pins: 1 P, 2 N
text: +

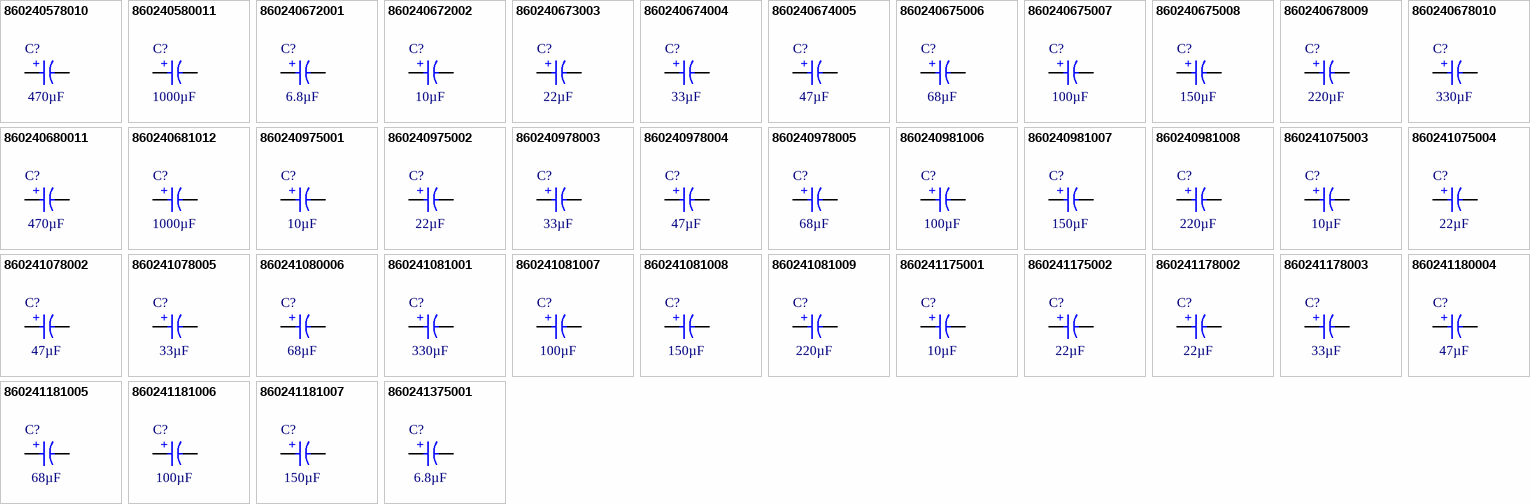
[diagram p1: symbols 860240578010 to 860241375001]

## 860240578010
designator C?, comment 470µF
WCAP-AT1H Aluminum Electrolytic Capacitor, Radial, D13 x H25mm, 470µF, 35V; Manufacturer Part Number: 860240578010; Manufacturer: Wurth Elektronik; Capacitance Tolerance: +/-20%; Dissipation Factor: 12%; Endurance: 10000h; Leakage Current: 164.5µA; Ripple Current: 1100mA; Technical Reference: ATDI250471M035DSPACK000; Category: Aluminum Electrolytic Capacitors; Match Code: WCAP-AT1H; ComponentLink1Description: Website Link; ComponentLink1URL: https://www.we-online.com/redexpert/article/860240578010?ad; ComponentLink2Description: Datasheet Link; ComponentLink2URL: https://www.we-online.com/redexpert/spec/860240578010?ad; Mount: Through Hole; Min Operating Temperature: -40°C; Max Operating Temperature: 105°C; Packaging: Ammo Pack; Case/Size Code: D13 x H25mm; Height: 25mm; Diameter: 13mm; Capacitance: 470µF; Rated Voltage (DC): 35V
footprint WCAP-AT1H_D13H25
simulation model 860240578010_470uF
pins: 1 P, 2 N
text: +

## 860240580011
designator C?, comment 1000µF
WCAP-AT1H Aluminum Electrolytic Capacitor, Radial, D16 x H31.5mm, 1000µF, 35V; Manufacturer Part Number: 860240580011; Manufacturer: Wurth Elektronik; Capacitance Tolerance: +/-20%; Dissipation Factor: 12%; Endurance: 10000h; Leakage Current: 350µA; Ripple Current: 1932mA; Technical Reference: ATDK315102M035DSPADK000; Category: Aluminum Electrolytic Capacitors; Match Code: WCAP-AT1H; ComponentLink1Description: Website Link; ComponentLink1URL: https://www.we-online.com/redexpert/article/860240580011?ad; ComponentLink2Description: Datasheet Link; ComponentLink2URL: https://www.we-online.com/redexpert/spec/860240580011?ad; Mount: Through Hole; Min Operating Temperature: -40°C; Max Operating Temperature: 105°C; Packaging: Ammo Pack; Case/Size Code: D16 x H31.5mm; Height: 31.5mm; Diameter: 16mm; Capacitance: 1000µF; Rated Voltage (DC): 35V
footprint WCAP-AT1H_D16H31.5
simulation model 860240580011_1mF
pins: 1 P, 2 N
text: +

## 860240672001
designator C?, comment 6.8µF
WCAP-AT1H Aluminum Electrolytic Capacitor, Radial, D5 x H11mm, 6.8µF, 50V; Manufacturer Part Number: 860240672001; Manufacturer: Wurth Elektronik; Capacitance Tolerance: +/-20%; Dissipation Factor: 10%; Endurance: 5000h; Leakage Current: 3.4µA; Ripple Current: 75mA; Technical Reference: ATDC1106R8M050DSPA3E000; Category: Aluminum Electrolytic Capacitors; Match Code: WCAP-AT1H; ComponentLink1Description: Website Link; ComponentLink1URL: https://www.we-online.com/redexpert/article/860240672001?ad; ComponentLink2Description: Datasheet Link; ComponentLink2URL: https://www.we-online.com/redexpert/spec/860240672001?ad; Mount: Through Hole; Min Operating Temperature: -40°C; Max Operating Temperature: 105°C; Packaging: Ammo Pack; Case/Size Code: D5 x H11mm; Height: 11mm; Diameter: 5mm; Capacitance: 6.8µF; Rated Voltage (DC): 50V
footprint WCAP-AT1H_D5H11
simulation model 860240672001_6.8uF
pins: 1 P, 2 N
text: +

## 860240672002
designator C?, comment 10µF
WCAP-AT1H Aluminum Electrolytic Capacitor, Radial, D5 x H11mm, 10µF, 50V; Manufacturer Part Number: 860240672002; Manufacturer: Wurth Elektronik; Capacitance Tolerance: +/-20%; Dissipation Factor: 10%; Endurance: 5000h; Leakage Current: 5µA; Ripple Current: 97mA; Technical Reference: ATDC110100M050DSPA3E000; Category: Aluminum Electrolytic Capacitors; Match Code: WCAP-AT1H; ComponentLink1Description: Website Link; ComponentLink1URL: https://www.we-online.com/redexpert/article/860240672002?ad; ComponentLink2Description: Datasheet Link; ComponentLink2URL: https://www.we-online.com/redexpert/spec/860240672002?ad; Mount: Through Hole; Min Operating Temperature: -40°C; Max Operating Temperature: 105°C; Packaging: Ammo Pack; Case/Size Code: D5 x H11mm; Height: 11mm; Diameter: 5mm; Capacitance: 10µF; Rated Voltage (DC): 50V
footprint WCAP-AT1H_D5H11
simulation model 860240672002_10uF
pins: 1 P, 2 N
text: +

## 860240673003
designator C?, comment 22µF
WCAP-AT1H Aluminum Electrolytic Capacitor, Radial, D6.3 x H11mm, 22µF, 50V; Manufacturer Part Number: 860240673003; Manufacturer: Wurth Elektronik; Capacitance Tolerance: +/-20%; Dissipation Factor: 10%; Endurance: 5000h; Leakage Current: 11µA; Ripple Current: 130mA; Technical Reference: ATDD110220M050DSPA4E000; Category: Aluminum Electrolytic Capacitors; Match Code: WCAP-AT1H; ComponentLink1Description: Website Link; ComponentLink1URL: https://www.we-online.com/redexpert/article/860240673003?ad; ComponentLink2Description: Datasheet Link; ComponentLink2URL: https://www.we-online.com/redexpert/spec/860240673003?ad; Mount: Through Hole; Min Operating Temperature: -40°C; Max Operating Temperature: 105°C; Packaging: Ammo Pack; Case/Size Code: D6.3 x H11mm; Height: 11mm; Diameter: 6.3mm; Capacitance: 22µF; Rated Voltage (DC): 50V
footprint WCAP-AT1H_D6.3H11
simulation model 860240673003_22uF
pins: 1 P, 2 N
text: +

## 860240674004
designator C?, comment 33µF
WCAP-AT1H Aluminum Electrolytic Capacitor, Radial, D8 x H11.5mm, 33µF, 50V; Manufacturer Part Number: 860240674004; Manufacturer: Wurth Elektronik; Capacitance Tolerance: +/-20%; Dissipation Factor: 10%; Endurance: 8000h; Leakage Current: 16.5µA; Ripple Current: 241mA; Technical Reference: ATDE115330M050DSPA7H000; Category: Aluminum Electrolytic Capacitors; Match Code: WCAP-AT1H; ComponentLink1Description: Website Link; ComponentLink1URL: https://www.we-online.com/redexpert/article/860240674004?ad; ComponentLink2Description: Datasheet Link; ComponentLink2URL: https://www.we-online.com/redexpert/spec/860240674004?ad; Mount: Through Hole; Min Operating Temperature: -40°C; Max Operating Temperature: 105°C; Packaging: Ammo Pack; Case/Size Code: D8 x H11.5mm; Height: 11.5mm; Diameter: 8mm; Capacitance: 33µF; Rated Voltage (DC): 50V
footprint WCAP-AT1H_D8H11.5
simulation model 860240674004_33uF
pins: 1 P, 2 N
text: +

## 860240674005
designator C?, comment 47µF
WCAP-AT1H Aluminum Electrolytic Capacitor, Radial, D8 x H11.5mm, 47µF, 50V; Manufacturer Part Number: 860240674005; Manufacturer: Wurth Elektronik; Capacitance Tolerance: +/-20%; Dissipation Factor: 10%; Endurance: 8000h; Leakage Current: 23.5µA; Ripple Current: 287mA; Technical Reference: ATDE115470M050DSPA7H000; Category: Aluminum Electrolytic Capacitors; Match Code: WCAP-AT1H; ComponentLink1Description: Website Link; ComponentLink1URL: https://www.we-online.com/redexpert/article/860240674005?ad; ComponentLink2Description: Datasheet Link; ComponentLink2URL: https://www.we-online.com/redexpert/spec/860240674005?ad; Mount: Through Hole; Min Operating Temperature: -40°C; Max Operating Temperature: 105°C; Packaging: Ammo Pack; Case/Size Code: D8 x H11.5mm; Height: 11.5mm; Diameter: 8mm; Capacitance: 47µF; Rated Voltage (DC): 50V
footprint WCAP-AT1H_D8H11.5
simulation model 860240674005_47uF
pins: 1 P, 2 N
text: +

## 860240675006
designator C?, comment 68µF
WCAP-AT1H Aluminum Electrolytic Capacitor, Radial, D10 x H12.5mm, 68µF, 50V; Manufacturer Part Number: 860240675006; Manufacturer: Wurth Elektronik; Capacitance Tolerance: +/-20%; Dissipation Factor: 10%; Endurance: 10000h; Leakage Current: 34µA; Ripple Current: 356mA; Technical Reference: ATDF125680M050DSPA9K000; Category: Aluminum Electrolytic Capacitors; Match Code: WCAP-AT1H; ComponentLink1Description: Website Link; ComponentLink1URL: https://www.we-online.com/redexpert/article/860240675006?ad; ComponentLink2Description: Datasheet Link; ComponentLink2URL: https://www.we-online.com/redexpert/spec/860240675006?ad; Mount: Through Hole; Min Operating Temperature: -40°C; Max Operating Temperature: 105°C; Packaging: Ammo Pack; Case/Size Code: D10 x H12.5mm; Height: 12.5mm; Diameter: 10mm; Capacitance: 68µF; Rated Voltage (DC): 50V
footprint WCAP-AT1H_D10H12.5
simulation model 860240675006_68uF
pins: 1 P, 2 N
text: +

## 860240675007
designator C?, comment 100µF
WCAP-AT1H Aluminum Electrolytic Capacitor, Radial, D10 x H16mm, 100µF, 50V; Manufacturer Part Number: 860240675007; Manufacturer: Wurth Elektronik; Capacitance Tolerance: +/-20%; Dissipation Factor: 10%; Endurance: 10000h; Leakage Current: 50µA; Ripple Current: 500mA; Technical Reference: ATDF160101M050DSPAAK000; Category: Aluminum Electrolytic Capacitors; Match Code: WCAP-AT1H; ComponentLink1Description: Website Link; ComponentLink1URL: https://www.we-online.com/redexpert/article/860240675007?ad; ComponentLink2Description: Datasheet Link; ComponentLink2URL: https://www.we-online.com/redexpert/spec/860240675007?ad; Mount: Through Hole; Min Operating Temperature: -40°C; Max Operating Temperature: 105°C; Packaging: Ammo Pack; Case/Size Code: D10 x H16mm; Height: 16mm; Diameter: 10mm; Capacitance: 100µF; Rated Voltage (DC): 50V
footprint WCAP-AT1H_D10H16
simulation model 860240675007_100uF
pins: 1 P, 2 N
text: +

## 860240675008
designator C?, comment 150µF
WCAP-AT1H Aluminum Electrolytic Capacitor, Radial, D10 x H20mm, 150µF, 50V; Manufacturer Part Number: 860240675008; Manufacturer: Wurth Elektronik; Capacitance Tolerance: +/-20%; Dissipation Factor: 10%; Endurance: 10000h; Leakage Current: 75µA; Ripple Current: 747mA; Technical Reference: ATDF200151M050DSPAAK000; Category: Aluminum Electrolytic Capacitors; Match Code: WCAP-AT1H; ComponentLink1Description: Website Link; ComponentLink1URL: https://www.we-online.com/redexpert/article/860240675008?ad; ComponentLink2Description: Datasheet Link; ComponentLink2URL: https://www.we-online.com/redexpert/spec/860240675008?ad; Mount: Through Hole; Min Operating Temperature: -40°C; Max Operating Temperature: 105°C; Packaging: Ammo Pack; Case/Size Code: D10 x H20mm; Height: 20mm; Diameter: 10mm; Capacitance: 150µF; Rated Voltage (DC): 50V
footprint WCAP-AT1H_D10H20
simulation model 860240675008_150uF
pins: 1 P, 2 N
text: +

## 860240678009
designator C?, comment 220µF
WCAP-AT1H Aluminum Electrolytic Capacitor, Radial, D13 x H20mm, 220µF, 50V; Manufacturer Part Number: 860240678009; Manufacturer: Wurth Elektronik; Capacitance Tolerance: +/-20%; Dissipation Factor: 10%; Endurance: 10000h; Leakage Current: 110µA; Ripple Current: 977mA; Technical Reference: ATDI200221M050DSPACK000; Category: Aluminum Electrolytic Capacitors; Match Code: WCAP-AT1H; ComponentLink1Description: Website Link; ComponentLink1URL: https://www.we-online.com/redexpert/article/860240678009?ad; ComponentLink2Description: Datasheet Link; ComponentLink2URL: https://www.we-online.com/redexpert/spec/860240678009?ad; Mount: Through Hole; Min Operating Temperature: -40°C; Max Operating Temperature: 105°C; Packaging: Ammo Pack; Case/Size Code: D13 x H20mm; Height: 20mm; Diameter: 13mm; Capacitance: 220µF; Rated Voltage (DC): 50V
footprint WCAP-AT1H_D13H20
simulation model 860240678009_220uF
pins: 1 P, 2 N
text: +